# Altium footprint library EJ503A.PcbLib: 1 footprints
Each footprint in its own frame and in the unit in brackets; x right, y up, seen from the top. Pads: shape width x height; smd on the part's side, far side on the other; paste and mask are expansions set on the pad; w line width, h text height; cw(c..) or ccw(c..) is an arc to the next point about the centre after c.
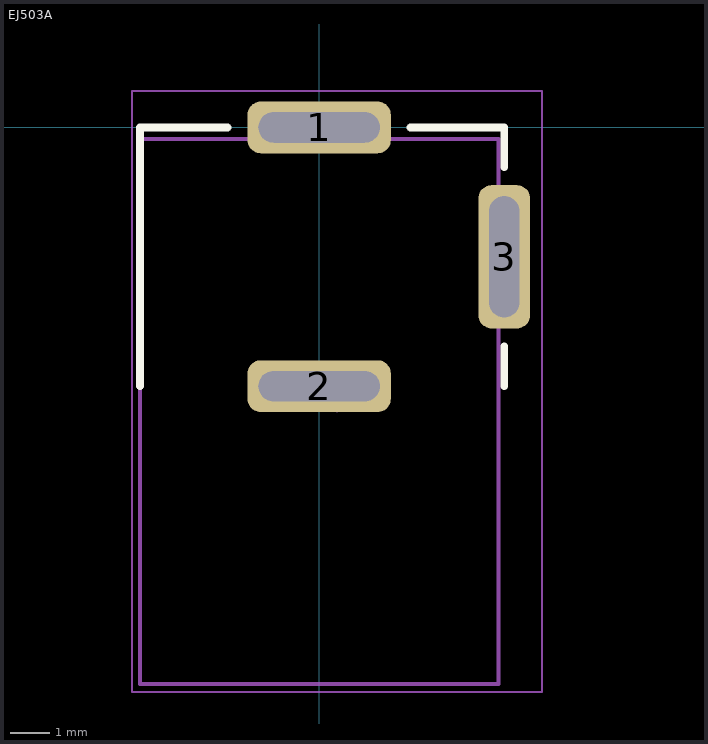
[diagram p0: the footprint, top view; thin cyan lines are the x and y axes]

## EJ503A [mm]
pads (3):
  rrect50% 3.6x1.3 hole 0.76 slot 3.05 at 0 deg: 1(0,0) 2(0,-6.5)
  rrect50% 1.3x3.6 hole 0.76 slot 3.05 at 90 deg: 3(4.65,-3.25)
Top Overlay:
  lines w0.2: -4.5,-6.5 -4.5,0 -2.3,0 ; 2.3,0 4.65,0 4.65,-1 ; 4.65,-6.5 4.65,-5.5
Mechanical 13:
  lines w0.1: -4.5,-13.99 -4.5,-0.29 4.5,-0.29 4.5,-13.99 -4.5,-13.99
Mechanical 15:
  lines w0.05: -0.05,-6.64 0.95,-6.64 ; 0.45,-7.14 0.45,-6.14 ; -4.7,-14.19 5.6,-14.19 5.6,0.91 -4.7,0.91 -4.7,-14.19
3D body "MPD_EJ503A.step": height 11, standoff -4.3, extent -4.65,-14.14 4.65,-0.14